# Altium footprint library FTSH-105-01-L-DV-K-TR.PcbLib: 1 footprints
Each footprint in its own frame and in the unit in brackets; x right, y up, seen from the top. Pads: shape width x height; smd on the part's side, far side on the other; paste and mask are expansions set on the pad; w line width, h text height; cw(c..) or ccw(c..) is an arc to the next point about the centre after c.
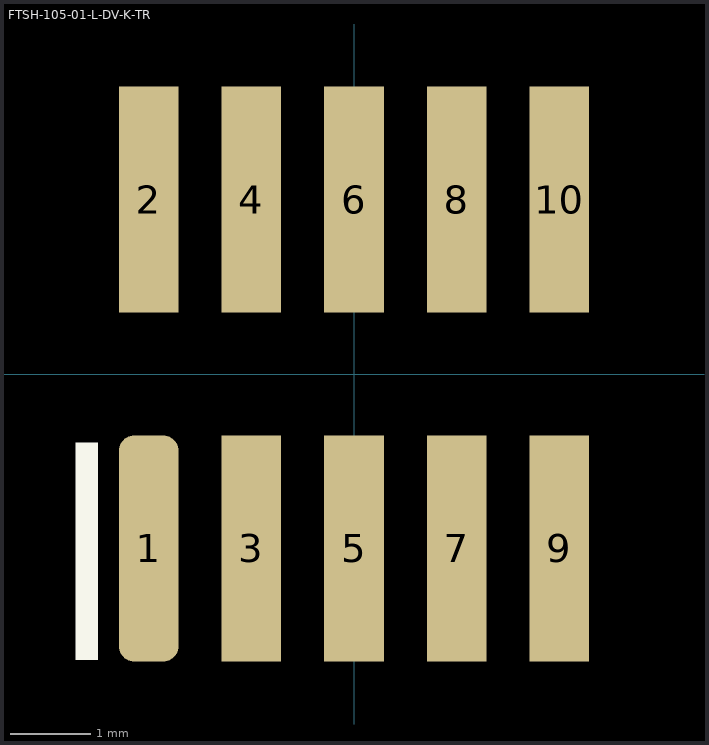
[diagram p0: the footprint, top view; thin cyan lines are the x and y axes]

## FTSH-105-01-L-DV-K-TR [mil] "Samtec FTSH-105-01-F-DV-K-A SMT Connector"
height 235.04
pads (10):
  rrect50% 29x110 smd: 1(-100,-85)
  rect 29x110 smd: 2(-100,85) 3(-50,-85) 4(-50,85) 5(0,-85) 6(0,85) 7(50,-85) 8(50,85) 9(100,-85) 10(100,85)
Top Overlay:
  rectangle: -135.67,-139.42 -124.67,-33.42
3D body "FTSH-105-01-L-DV-K-TR.stp": height 241.5, standoff 0.5, extent -125,-115 125,115